# Altium footprint library STM32G441KBT3.PcbLib: 3 footprints
Each footprint in its own frame and in the unit in brackets; x right, y up, seen from the top. Pads: shape width x height; smd on the part's side, far side on the other; paste and mask are expansions set on the pad; w line width, h text height; cw(c..) or ccw(c..) is an arc to the next point about the centre after c.
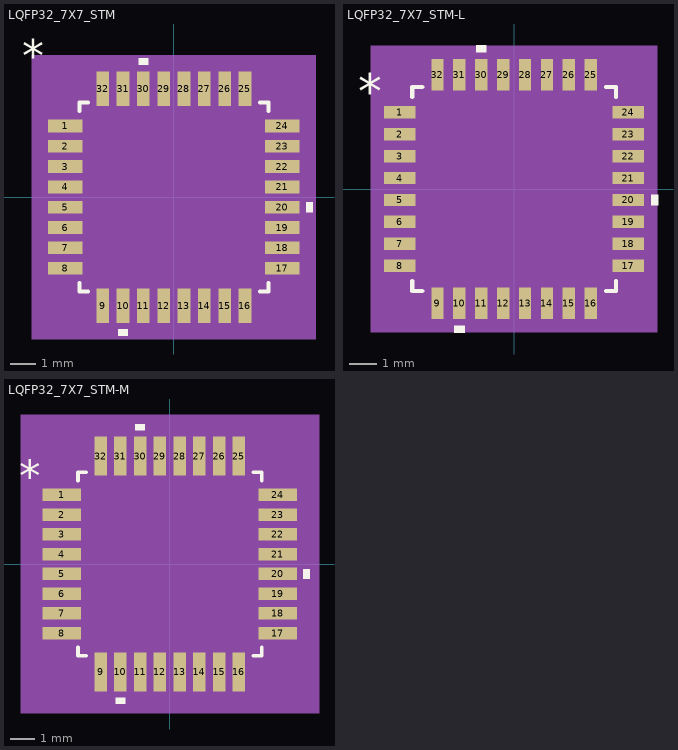
[diagram p0: the footprints below, top view; thin cyan lines are the x and y axes]

## LQFP32_7X7_STM [mm]
pads (32):
  rect 1.359x0.501 smd paste+0 mask+0: 1(-4.274,2.8) 2(-4.274,2) 3(-4.274,1.2) 4(-4.274,0.4) 5(-4.274,-0.4) 6(-4.274,-1.2) 7(-4.274,-2) 8(-4.274,-2.8) 17(4.274,-2.8) 18(4.274,-2) 19(4.274,-1.2) 20(4.274,-0.4) 21(4.274,0.4) 22(4.274,1.2) 23(4.274,2) 24(4.274,2.8)
  rect 0.501x1.359 smd paste+0 mask+0: 9(-2.8,-4.274) 10(-2,-4.274) 11(-1.2,-4.274) 12(-0.4,-4.274) 13(0.4,-4.274) 14(1.2,-4.274) 15(2,-4.274) 16(2.8,-4.274) 25(2.8,4.274) 26(2,4.274) 27(1.2,4.274) 28(0.4,4.274) 29(-0.4,4.274) 30(-1.2,4.274) 31(-2,4.274) 32(-2.8,4.274)
Top Overlay:
  region: -1.01,5.207 -1.391,5.207 -1.391,5.461 -1.01,5.461
  region: 5.207,-0.209 5.461,-0.209 5.461,-0.59 5.207,-0.59
  region: -1.81,-5.207 -2.191,-5.207 -2.191,-5.461 -1.81,-5.461
  lines w0.152: -3.721,-3.383 -3.721,-3.721 -3.383,-3.721 ; -3.721,3.383 -3.721,3.721 -3.383,3.721 ; 3.383,-3.721 3.721,-3.721 3.721,-3.383 ; 3.383,3.721 3.721,3.721 3.721,3.383
  text "*" at -5.969,4.953 h1.27
Mechanical 5:
  region: 5.588,-5.588 -5.588,-5.588 -5.588,5.588 5.588,5.588
Mechanical 13:
  lines w0.025: -3.594,2.324 -2.324,3.594 ; -4.597,-3.025 -3.594,-3.025 -3.594,-2.575 -4.597,-2.575 -4.597,-3.025 ; -4.597,-2.225 -3.594,-2.225 -3.594,-1.775 -4.597,-1.775 -4.597,-2.225 ; -4.597,-1.425 -3.594,-1.425 -3.594,-0.975 -4.597,-0.975 -4.597,-1.425 ; -4.597,-0.625 -3.594,-0.625 -3.594,-0.175 -4.597,-0.175 -4.597,-0.625 ; -4.597,0.175 -3.594,0.175 -3.594,0.625 -4.597,0.625 -4.597,0.175 ; -4.597,0.975 -3.594,0.975 -3.594,1.425 -4.597,1.425 -4.597,0.975 ; -4.597,1.775 -3.594,1.775 -3.594,2.225 -4.597,2.225 -4.597,1.775 ; -4.597,2.575 -3.594,2.575 -3.594,3.025 -4.597,3.025 -4.597,2.575 ; -3.594,-3.594 -3.594,3.594 3.594,3.594 3.594,-3.594 -3.594,-3.594 ; -3.025,-4.597 -2.575,-4.597 -2.575,-3.594 -3.025,-3.594 -3.025,-4.597 ; -3.025,3.594 -3.025,4.597 -2.575,4.597 -2.575,3.594 -3.025,3.594 ; -2.225,-4.597 -1.775,-4.597 -1.775,-3.594 -2.225,-3.594 -2.225,-4.597 ; -2.225,3.594 -2.225,4.597 -1.775,4.597 -1.775,3.594 -2.225,3.594 ; -1.425,-4.597 -0.975,-4.597 -0.975,-3.594 -1.425,-3.594 -1.425,-4.597 ; -1.425,3.594 -1.425,4.597 -0.975,4.597 -0.975,3.594 -1.425,3.594 ; -0.625,-4.597 -0.175,-4.597 -0.175,-3.594 -0.625,-3.594 -0.625,-4.597 ; -0.625,3.594 -0.625,4.597 -0.175,4.597 -0.175,3.594 -0.625,3.594 ; 0.175,-4.597 0.625,-4.597 0.625,-3.594 0.175,-3.594 0.175,-4.597 ; 0.175,3.594 0.175,4.597 0.625,4.597 0.625,3.594 0.175,3.594 ; 0.975,-4.597 1.425,-4.597 1.425,-3.594 0.975,-3.594 0.975,-4.597 ; 0.975,3.594 0.975,4.597 1.425,4.597 1.425,3.594 0.975,3.594 ; 1.775,-4.597 2.225,-4.597 2.225,-3.594 1.775,-3.594 1.775,-4.597 ; 1.775,3.594 1.775,4.597 2.225,4.597 2.225,3.594 1.775,3.594 ; 2.575,-4.597 3.025,-4.597 3.025,-3.594 2.575,-3.594 2.575,-4.597 ; 2.575,3.594 2.575,4.597 3.025,4.597 3.025,3.594 2.575,3.594 ; 3.594,-3.025 4.597,-3.025 4.597,-2.575 3.594,-2.575 3.594,-3.025 ; 3.594,-2.225 4.597,-2.225 4.597,-1.775 3.594,-1.775 3.594,-2.225 ; 3.594,-1.425 4.597,-1.425 4.597,-0.975 3.594,-0.975 3.594,-1.425 ; 3.594,-0.625 4.597,-0.625 4.597,-0.175 3.594,-0.175 3.594,-0.625 ; 3.594,0.175 4.597,0.175 4.597,0.625 3.594,0.625 3.594,0.175 ; 3.594,0.975 4.597,0.975 4.597,1.425 3.594,1.425 3.594,0.975 ; 3.594,1.775 4.597,1.775 4.597,2.225 3.594,2.225 3.594,1.775 ; 3.594,2.575 4.597,2.575 4.597,3.025 3.594,3.025 3.594,2.575
  text "*" at -3.531,2.565 h1.27
Mechanical 15:
  region: -3.304,-3.848 -3.848,-3.848 -3.848,-3.304 -5.207,-3.304 -5.207,3.304 -3.848,3.304 -3.848,3.848 -3.304,3.848 -3.304,5.207 3.304,5.207 3.304,3.848 3.848,3.848 3.848,3.304 5.207,3.304 5.207,-3.304 3.848,-3.304 3.848,-3.848 3.304,-3.848 3.304,-5.207 -3.304,-5.207
  lines w0.152: -5.207,-3.304 -5.207,3.304 -3.848,3.304 -3.848,3.848 -3.304,3.848 -3.304,5.207 3.304,5.207 3.304,3.848 3.848,3.848 3.848,3.304 5.207,3.304 5.207,-3.304 3.848,-3.304 3.848,-3.848 3.304,-3.848 3.304,-5.207 -3.304,-5.207 -3.304,-3.848 -3.848,-3.848 -3.848,-3.304 -5.207,-3.304
3D body "LQFP32_7X7_STM.step": height 1.6, standoff 0, extent -4.597,-4.597 4.597,4.597

## LQFP32_7X7_STM-L [mm]
pads (32):
  rect 1.156x0.45 smd paste+0 mask+0: 1(-4.172,2.8) 2(-4.172,2) 3(-4.172,1.2) 4(-4.172,0.4) 5(-4.172,-0.4) 6(-4.172,-1.2) 7(-4.172,-2) 8(-4.172,-2.8) 17(4.172,-2.8) 18(4.172,-2) 19(4.172,-1.2) 20(4.172,-0.4) 21(4.172,0.4) 22(4.172,1.2) 23(4.172,2) 24(4.172,2.8)
  rect 0.45x1.156 smd paste+0 mask+0: 9(-2.8,-4.172) 10(-2,-4.172) 11(-1.2,-4.172) 12(-0.4,-4.172) 13(0.4,-4.172) 14(1.2,-4.172) 15(2,-4.172) 16(2.8,-4.172) 25(2.8,4.172) 26(2,4.172) 27(1.2,4.172) 28(0.4,4.172) 29(-0.4,4.172) 30(-1.2,4.172) 31(-2,4.172) 32(-2.8,4.172)
Top Overlay:
  region: -1.81,-5.004 -2.191,-5.004 -2.191,-5.258 -1.81,-5.258
  region: 5.004,-0.209 5.258,-0.209 5.258,-0.59 5.004,-0.59
  region: -1.01,5.004 -1.391,5.004 -1.391,5.258 -1.01,5.258
  lines w0.152: -3.721,-3.358 -3.721,-3.721 -3.358,-3.721 ; -3.721,3.358 -3.721,3.721 -3.358,3.721 ; 3.358,-3.721 3.721,-3.721 3.721,-3.358 ; 3.358,3.721 3.721,3.721 3.721,3.358
  text "*" at -5.702,2.946 h1.27
Mechanical 5:
  region: 5.232,-5.232 -5.232,-5.232 -5.232,5.232 5.232,5.232
Mechanical 13:
  lines w0.025: -3.594,2.324 -2.324,3.594 ; -4.597,-3.025 -4.597,-2.575 -3.594,-2.575 -3.594,-3.025 -4.597,-3.025 ; -4.597,-2.225 -4.597,-1.775 -3.594,-1.775 -3.594,-2.225 -4.597,-2.225 ; -4.597,-1.425 -4.597,-0.975 -3.594,-0.975 -3.594,-1.425 -4.597,-1.425 ; -4.597,-0.625 -4.597,-0.175 -3.594,-0.175 -3.594,-0.625 -4.597,-0.625 ; -4.597,0.175 -4.597,0.625 -3.594,0.625 -3.594,0.175 -4.597,0.175 ; -4.597,0.975 -4.597,1.425 -3.594,1.425 -3.594,0.975 -4.597,0.975 ; -4.597,1.775 -4.597,2.225 -3.594,2.225 -3.594,1.775 -4.597,1.775 ; -4.597,2.575 -4.597,3.025 -3.594,3.025 -3.594,2.575 -4.597,2.575 ; -3.594,-3.594 -3.594,3.594 3.594,3.594 3.594,-3.594 -3.594,-3.594 ; -3.025,-4.597 -3.025,-3.594 -2.575,-3.594 -2.575,-4.597 -3.025,-4.597 ; -3.025,3.594 -2.575,3.594 -2.575,4.597 -3.025,4.597 -3.025,3.594 ; -2.225,-4.597 -2.225,-3.594 -1.775,-3.594 -1.775,-4.597 -2.225,-4.597 ; -2.225,3.594 -1.775,3.594 -1.775,4.597 -2.225,4.597 -2.225,3.594 ; -1.425,-4.597 -1.425,-3.594 -0.975,-3.594 -0.975,-4.597 -1.425,-4.597 ; -1.425,3.594 -0.975,3.594 -0.975,4.597 -1.425,4.597 -1.425,3.594 ; -0.625,-4.597 -0.625,-3.594 -0.175,-3.594 -0.175,-4.597 -0.625,-4.597 ; -0.625,3.594 -0.175,3.594 -0.175,4.597 -0.625,4.597 -0.625,3.594 ; 0.175,-4.597 0.175,-3.594 0.625,-3.594 0.625,-4.597 0.175,-4.597 ; 0.175,3.594 0.625,3.594 0.625,4.597 0.175,4.597 0.175,3.594 ; 0.975,-4.597 0.975,-3.594 1.425,-3.594 1.425,-4.597 0.975,-4.597 ; 0.975,3.594 1.425,3.594 1.425,4.597 0.975,4.597 0.975,3.594 ; 1.775,-4.597 1.775,-3.594 2.225,-3.594 2.225,-4.597 1.775,-4.597 ; 1.775,3.594 2.225,3.594 2.225,4.597 1.775,4.597 1.775,3.594 ; 2.575,-4.597 2.575,-3.594 3.025,-3.594 3.025,-4.597 2.575,-4.597 ; 2.575,3.594 3.025,3.594 3.025,4.597 2.575,4.597 2.575,3.594 ; 3.594,-3.025 3.594,-2.575 4.597,-2.575 4.597,-3.025 3.594,-3.025 ; 3.594,-2.225 3.594,-1.775 4.597,-1.775 4.597,-2.225 3.594,-2.225 ; 3.594,-1.425 3.594,-0.975 4.597,-0.975 4.597,-1.425 3.594,-1.425 ; 3.594,-0.625 3.594,-0.175 4.597,-0.175 4.597,-0.625 3.594,-0.625 ; 3.594,0.175 3.594,0.625 4.597,0.625 4.597,0.175 3.594,0.175 ; 3.594,0.975 3.594,1.425 4.597,1.425 4.597,0.975 3.594,0.975 ; 3.594,1.775 3.594,2.225 4.597,2.225 4.597,1.775 3.594,1.775 ; 3.594,2.575 3.594,3.025 4.597,3.025 4.597,2.575 3.594,2.575
  text "*" at -3.531,2.565 h1.27
Mechanical 15:
  region: -3.127,-3.696 -3.696,-3.696 -3.696,-3.127 -4.851,-3.127 -4.851,3.127 -3.696,3.127 -3.696,3.696 -3.127,3.696 -3.127,4.851 3.127,4.851 3.127,3.696 3.696,3.696 3.696,3.127 4.851,3.127 4.851,-3.127 3.696,-3.127 3.696,-3.696 3.127,-3.696 3.127,-4.851 -3.127,-4.851
  lines w0.152: -4.851,-3.127 -3.696,-3.127 -3.696,-3.696 -3.127,-3.696 -3.127,-4.851 3.127,-4.851 3.127,-3.696 3.696,-3.696 3.696,-3.127 4.851,-3.127 4.851,3.127 3.696,3.127 3.696,3.696 3.127,3.696 3.127,4.851 -3.127,4.851 -3.127,3.696 -3.696,3.696 -3.696,3.127 -4.851,3.127 -4.851,-3.127
3D body "LQFP32_7X7_STM.step": height 1.6, standoff 0, extent -4.597,-4.597 4.597,4.597

## LQFP32_7X7_STM-M [mm]
pads (32):
  rect 1.562x0.501 smd paste+0 mask+0: 1(-4.375,2.8) 2(-4.375,2) 3(-4.375,1.2) 4(-4.375,0.4) 5(-4.375,-0.4) 6(-4.375,-1.2) 7(-4.375,-2) 8(-4.375,-2.8) 17(4.375,-2.8) 18(4.375,-2) 19(4.375,-1.2) 20(4.375,-0.4) 21(4.375,0.4) 22(4.375,1.2) 23(4.375,2) 24(4.375,2.8)
  rect 0.501x1.562 smd paste+0 mask+0: 9(-2.8,-4.375) 10(-2,-4.375) 11(-1.2,-4.375) 12(-0.4,-4.375) 13(0.4,-4.375) 14(1.2,-4.375) 15(2,-4.375) 16(2.8,-4.375) 25(2.8,4.375) 26(2,4.375) 27(1.2,4.375) 28(0.4,4.375) 29(-0.4,4.375) 30(-1.2,4.375) 31(-2,4.375) 32(-2.8,4.375)
Top Overlay:
  region: -1.81,-5.41 -2.191,-5.41 -2.191,-5.664 -1.81,-5.664
  region: 5.41,-0.209 5.664,-0.209 5.664,-0.59 5.41,-0.59
  region: -1.01,5.41 -1.391,5.41 -1.391,5.664 -1.01,5.664
  lines w0.152: -3.721,-3.383 -3.721,-3.721 -3.383,-3.721 ; -3.721,3.383 -3.721,3.721 -3.383,3.721 ; 3.383,-3.721 3.721,-3.721 3.721,-3.383 ; 3.383,3.721 3.721,3.721 3.721,3.383
  text "*" at -6.109,2.946 h1.27
Mechanical 5:
  region: 6.045,-6.045 -6.045,-6.045 -6.045,6.045 6.045,6.045
Mechanical 13:
  lines w0.025: -3.594,2.324 -2.324,3.594 ; -4.597,-3.025 -4.597,-2.575 -3.594,-2.575 -3.594,-3.025 -4.597,-3.025 ; -4.597,-2.225 -4.597,-1.775 -3.594,-1.775 -3.594,-2.225 -4.597,-2.225 ; -4.597,-1.425 -4.597,-0.975 -3.594,-0.975 -3.594,-1.425 -4.597,-1.425 ; -4.597,-0.625 -4.597,-0.175 -3.594,-0.175 -3.594,-0.625 -4.597,-0.625 ; -4.597,0.175 -4.597,0.625 -3.594,0.625 -3.594,0.175 -4.597,0.175 ; -4.597,0.975 -4.597,1.425 -3.594,1.425 -3.594,0.975 -4.597,0.975 ; -4.597,1.775 -4.597,2.225 -3.594,2.225 -3.594,1.775 -4.597,1.775 ; -4.597,2.575 -4.597,3.025 -3.594,3.025 -3.594,2.575 -4.597,2.575 ; -3.594,-3.594 -3.594,3.594 3.594,3.594 3.594,-3.594 -3.594,-3.594 ; -3.025,-4.597 -3.025,-3.594 -2.575,-3.594 -2.575,-4.597 -3.025,-4.597 ; -3.025,3.594 -2.575,3.594 -2.575,4.597 -3.025,4.597 -3.025,3.594 ; -2.225,-4.597 -2.225,-3.594 -1.775,-3.594 -1.775,-4.597 -2.225,-4.597 ; -2.225,3.594 -1.775,3.594 -1.775,4.597 -2.225,4.597 -2.225,3.594 ; -1.425,-4.597 -1.425,-3.594 -0.975,-3.594 -0.975,-4.597 -1.425,-4.597 ; -1.425,3.594 -0.975,3.594 -0.975,4.597 -1.425,4.597 -1.425,3.594 ; -0.625,-4.597 -0.625,-3.594 -0.175,-3.594 -0.175,-4.597 -0.625,-4.597 ; -0.625,3.594 -0.175,3.594 -0.175,4.597 -0.625,4.597 -0.625,3.594 ; 0.175,-4.597 0.175,-3.594 0.625,-3.594 0.625,-4.597 0.175,-4.597 ; 0.175,3.594 0.625,3.594 0.625,4.597 0.175,4.597 0.175,3.594 ; 0.975,-4.597 0.975,-3.594 1.425,-3.594 1.425,-4.597 0.975,-4.597 ; 0.975,3.594 1.425,3.594 1.425,4.597 0.975,4.597 0.975,3.594 ; 1.775,-4.597 1.775,-3.594 2.225,-3.594 2.225,-4.597 1.775,-4.597 ; 1.775,3.594 2.225,3.594 2.225,4.597 1.775,4.597 1.775,3.594 ; 2.575,-4.597 2.575,-3.594 3.025,-3.594 3.025,-4.597 2.575,-4.597 ; 2.575,3.594 3.025,3.594 3.025,4.597 2.575,4.597 2.575,3.594 ; 3.594,-3.025 3.594,-2.575 4.597,-2.575 4.597,-3.025 3.594,-3.025 ; 3.594,-2.225 3.594,-1.775 4.597,-1.775 4.597,-2.225 3.594,-2.225 ; 3.594,-1.425 3.594,-0.975 4.597,-0.975 4.597,-1.425 3.594,-1.425 ; 3.594,-0.625 3.594,-0.175 4.597,-0.175 4.597,-0.625 3.594,-0.625 ; 3.594,0.175 3.594,0.625 4.597,0.625 4.597,0.175 3.594,0.175 ; 3.594,0.975 3.594,1.425 4.597,1.425 4.597,0.975 3.594,0.975 ; 3.594,1.775 3.594,2.225 4.597,2.225 4.597,1.775 3.594,1.775 ; 3.594,2.575 3.594,3.025 4.597,3.025 4.597,2.575 3.594,2.575
  text "*" at -3.531,2.565 h1.27
Mechanical 15:
  region: -3.558,-4.102 -4.102,-4.102 -4.102,-3.558 -5.664,-3.558 -5.664,3.558 -4.102,3.558 -4.102,4.102 -3.558,4.102 -3.558,5.664 3.558,5.664 3.558,4.102 4.102,4.102 4.102,3.558 5.664,3.558 5.664,-3.558 4.102,-3.558 4.102,-4.102 3.558,-4.102 3.558,-5.664 -3.558,-5.664
  lines w0.152: -5.664,-3.558 -4.102,-3.558 -4.102,-4.102 -3.558,-4.102 -3.558,-5.664 3.558,-5.664 3.558,-4.102 4.102,-4.102 4.102,-3.558 5.664,-3.558 5.664,3.558 4.102,3.558 4.102,4.102 3.558,4.102 3.558,5.664 -3.558,5.664 -3.558,4.102 -4.102,4.102 -4.102,3.558 -5.664,3.558 -5.664,-3.558
3D body "LQFP32_7X7_STM.step": height 1.6, standoff 0, extent -4.597,-4.597 4.597,4.597